# Altium schematic symbol library TMUX1119DBVR.SchLib: 1 symbol
Pins are listed as number, name and electrical type; pins without a type are passive.

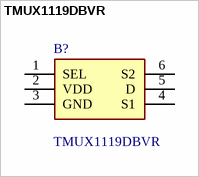
[diagram p0: symbol TMUX1119DBVR]

## TMUX1119DBVR
designator B?
Analog Switch ICs 3-pA, 5-V, 2:1 (SPDT), 1-channel precision multiplexer; Manufacturer_Name: Texas Instruments; Geometry.Height: 1.45mm; Mouser Part Number: 595-TMUX1119DBVR; Mouser Price/Stock: https://www.mouser.co.uk/ProductDetail/Texas-Instruments/TMUX1119DBVR?qs=9r4v7xj2Lnn%2FqYCDWCSZ7w%3D%3D; Manufacturer_Part_Number: TMUX1119DBVR; Datasheet Link: https://www.ti.com/lit/gpn/TMUX1119
footprint SOT95P280X145-6N
pins: 1 SEL, 2 VDD, 3 GND, 4 S1, 5 D, 6 S2